# Altium integrated library Keyboard.IntLib: 18 symbols
Pins are listed as number, name and electrical type; pins without a type are passive.

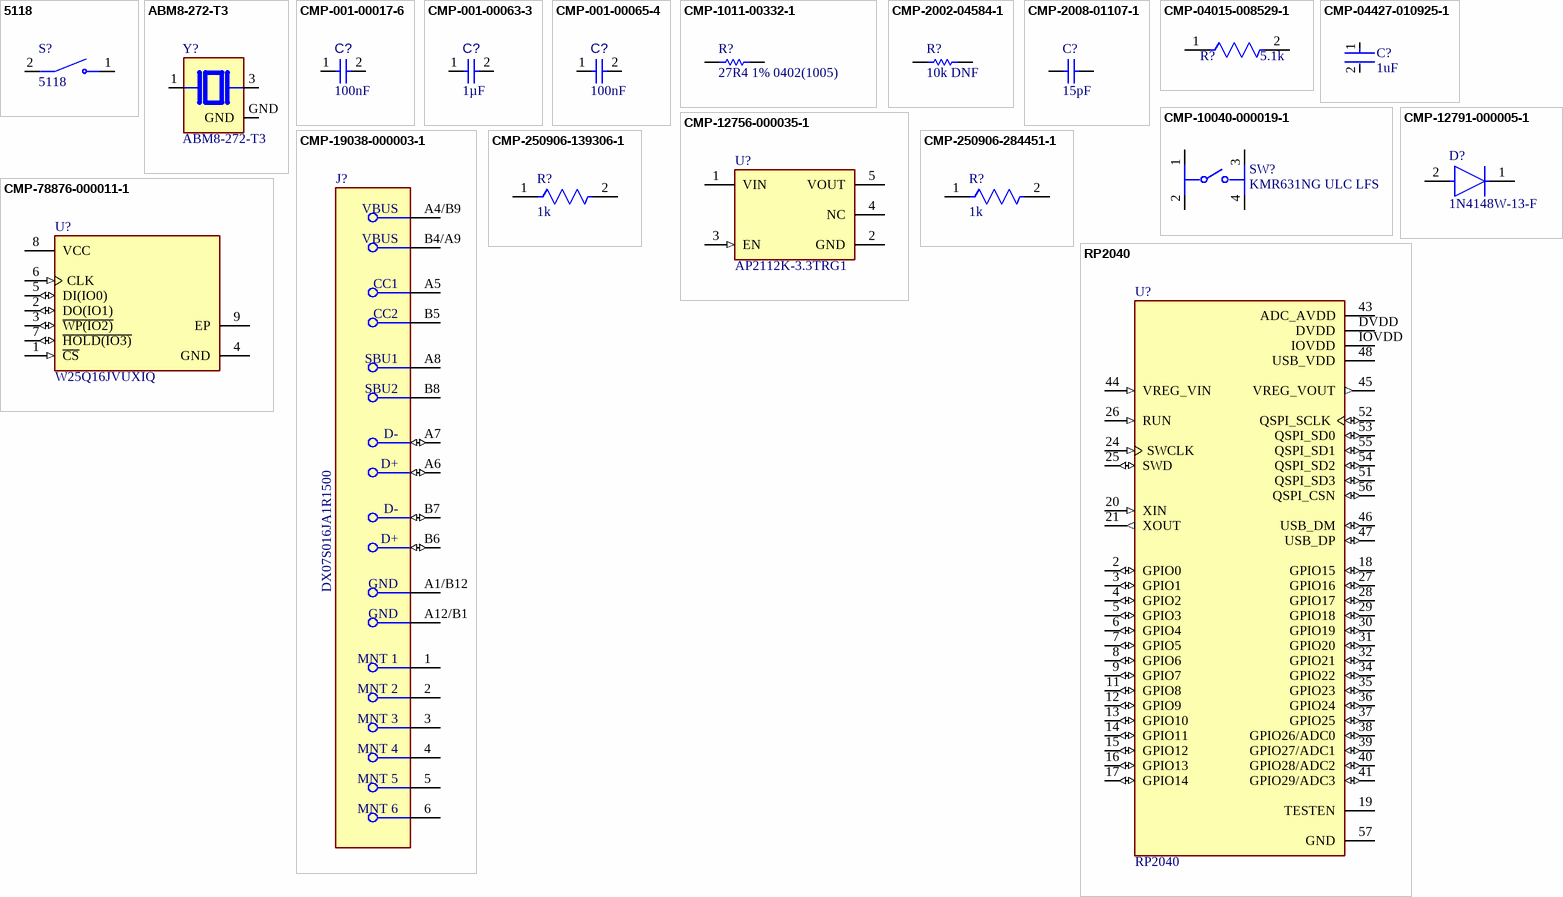
[diagram p0: symbols 5118 to RP2040]

## 5118
designator S?
SWITCH SKT FOR KAILH CHOC 1=10PC; MF: Adafruit Industries LLC; SnapEDA_Link: https://www.snapeda.com/parts/5118/Adafruit+Industries/view-part/?ref=snap; Package: NON STANDARD-2 Adafruit; Value: *; MP: 5118; Check_prices: https://www.snapeda.com/parts/5118/Adafruit+Industries/view-part/?ref=eda
footprint SW_5118
pins: 1 NO, 2 COM

## ABM8-272-T3
designator Y?
12 MHz Â±30ppm Crystal 10pF 50 Ohms 4-SMD, No Lead; MF: ABRACON; SnapEDA_Link: https://www.snapeda.com/parts/ABM8-272-T3/Abracon/view-part/?ref=snap; Package: NON-STANDARD-4 Abracon; Value: *; MP: ABM8-272-T3; Check_prices: https://www.snapeda.com/parts/ABM8-272-T3/Abracon/view-part/?ref=eda
footprint XTAL_ABM8-272-T3
pins: 1, 3, GND (power)

## CMP-001-00017-6
designator C?, comment value 100nF  (hidden comment: Capacitor 100 nF +/-10% 50 V 0603)
Chip Capacitor, 100 nF, +/- 10%, 50 V, 0603 (1608 Metric); Manufacturer: KYOCERA AVX; Manufacturer Part Number: 06035C104KAT2A; Manufacturer: Yageo Group; Manufacturer Part Number: CC0603KRX7R9BB104; Manufacturer: Murata; Manufacturer Part Number: GRM188R71H104KA93D; Voltage Rating: 50V; Capacitor Type: Ceramic; Tolerance: 10%; Mounting Technology: SM; Max Operating Temperature: 125°C; RoHS Compliant: True; Pins: 2; Case/Package: 0603; Min Operating Temperature: -55°C; Component Type: Capacitors
footprint CAPC1608X90X40NL10T20 (Chip Capacitor, 2-Leads, Body 1.70x0.90mm, IPC Medium Density)
footprint CAPC1608X90X40LL10T20 (Chip Capacitor, 2-Leads, Body 1.70x0.90mm, IPC High Density)
footprint CAPC1608X90X40ML10T20 (Chip Capacitor, 2-Leads, Body 1.70x0.90mm, IPC Low Density)
pins: 1, 2

## CMP-001-00063-3
designator C?, comment value 1µF  (hidden comment: Capacitor 1µF +/-20% 10V 0402)
Chip Capacitor, 1µF +/-20%, 10V, 0402, Thickness 0.6 mm; Manufacturer: KYOCERA AVX; Manufacturer Part Number: 0402ZD105KAT2A; Manufacturer: KEMET; Manufacturer Part Number: C0402C105K8PACTU; Manufacturer: Yageo Group; Manufacturer Part Number: CC0402KRX5R6BB105; Manufacturer: TDK; Manufacturer Part Number: C1005X5R1A105K050BB; Manufacturer Part Number: C1005X6S1A105K; Manufacturer Part Number: C0402C105K8PAC; Tolerance: 10%; Mounting Technology: SMT; Max Operating Temperature: 85°C; Voltage Rating: 10V; Pins: 2; Case/Package: 0402; Min Operating Temperature: -55°C; Component Type: Capacitors
footprint CAPC0402(1005)60_L (Chip Capacitor, Body 1.0x0.5mm, Height 0.6mm, IPC High Density)
pins: 1, 2

## CMP-001-00065-4
designator C?, comment value 100nF  (hidden comment: Capacitor 100nF +/-20% 25V 0402)
Chip Capacitor, 100nF +/-20%, 25V, 0402, Thickness 0.6 mm; Manufacturer: TDK; Manufacturer Part Number: CGA2B3X7R1E104K050BB; Manufacturer: KYOCERA AVX; Manufacturer Part Number: 04023D104KAT2A; Manufacturer: Samsung Electro-Mechanics; Manufacturer Part Number: CL05A104KA5NNNC; Manufacturer: Yageo Group; Manufacturer Part Number: CC0402KRX5R8BB104; Tolerance: 10%; Max Operating Temperature: 85°C; Min Operating Temperature: -55°C; Pins: 2; Voltage Rating: 25V; Mounting Technology: SMT; Case/Package: 0402; Component Type: Capacitors
footprint CAPC0402(1005)60_L (Chip Capacitor, Body 1.0x0.5mm, Height 0.6mm, IPC High Density)
pins: 1, 2

## CMP-1011-00332-1
designator R?, comment 27R4 1% 0402(1005)
27R4 0.063W 1% 0402 (1005 Metric)  SMD; Case-Metric: 1005; Value: 27.40 Ohm; Case-EIA: 0402; Power: 0.063 W; Tolerance: 1 %; Technology: SMT
footprint RESC0402(1005)_L (Chip Resistor, Body 1.0x0.5mm, IPC High Density)
footprint RESC0402(1005)_M (Chip Resistor, Body 1.0x0.5mm, IPC Low Density)
footprint RESC0402(1005)_N (Chip Resistor, Body 1.0x0.5mm, IPC Medium Density)
pins: 1, 2
1 alternate drawing of the same symbol

## CMP-2002-04584-1
designator R?, comment 10k DNF
Manufacturer: KOA Speer; Part Number: SG73P1ETTP1002F
footprint RESC1005X40X25LL10T10 (Chip Resistor, 2-Leads, Body 1.00x0.50mm, IPC High Density)
footprint RESC1005X40X25NL10T10 (Chip Resistor, 2-Leads, Body 1.00x0.50mm, IPC Medium Density)
footprint RESC1005X40X25ML10T10 (Chip Resistor, 2-Leads, Body 1.00x0.50mm, IPC Low Density)
pins: 1, 2
1 alternate drawing of the same symbol

## CMP-2008-01107-1
designator C?, comment 15pF
Manufacturer: Vitramon; Part Number: VJ0402A150JXAAP
footprint CAPC1005X60X26ML10T16 (Chip Capacitor, 2-Leads, Body 1.00x0.50mm, IPC Low Density)
footprint CAPC1005X60X26LL10T16 (Chip Capacitor, 2-Leads, Body 1.00x0.50mm, IPC High Density)
footprint CAPC1005X60X26NL10T16 (Chip Capacitor, 2-Leads, Body 1.00x0.50mm, IPC Medium Density)
pins: 1, 2
1 alternate drawing of the same symbol

## CMP-04015-008529-1
designator R?, comment 5.1k
5.1kΩ ±1% 0.063W, 1/16W Chip Resistor 0402 (1005 Metric) Moisture Resistant Thin Film
footprint FP-RN73R1E-IPC_C
footprint FP-RN73R1E-MFG
footprint FP-RN73R1E-IPC_B
footprint FP-RN73R1E-IPC_A
pins: 1, 2

## CMP-04427-010925-1
designator C?, comment 1uF
Automotive Ceramic Capacitor, 1206, 1uF, 5%, X7R, 15%, 50V; Mount: Surface Mount; Min Operating Temperature: -55°C; Voltage Rating (DC): 50V; Ratings: AEC-Q200; Tolerance: 5%; RoHS Compliant: Yes; Max Operating Temperature: 125°C; Width: 0.063inch; Voltage Rating: 50V; Thickness: 0.037inch; Package Quantity: 2000; Capacitance: 1uF; Packaging: Tape and Reel; Length: 0.126inch; Case/Package: 1206; Dielectric: X7R
footprint FP-1206-L_3_2_0_2-W_1_6_0-IPC_B
footprint FP-1206-L_3_2_0_2-W_1_6_0-IPC_A
footprint FP-1206-L_3_2_0_2-W_1_6_0-MFG
footprint FP-1206-L_3_2_0_2-W_1_6_0-IPC_C
pins: 1, 2

## CMP-10040-000019-1
designator SW?, comment KMR631NG ULC LFS
SWITCH TACTILE SPST-NO 50MA 32V; Mechanical Life: 150000Cycles; Actuator Type: Standard; Operating Force: 300gf; Switch Function: Off-Mom; Illumination Type: Non-Illuminated; Throw Configuration: SPST; Ratings: IP67; Packaging: Tape and Reel; Mount: Surface Mount; Min Operating Temperature: -40°C; Termination: Gull Wing; Max Operating Temperature: 85°C
footprint FP-KMR631NG_ULC_LFS-MFG
pins: 1, 2, 3, 4

## CMP-12756-000035-1
designator U?, comment AP2112K-3.3TRG1
IC REG LINEAR 3.3V 600MA SOT25; Number of Regulators: 1; Output Type: Fixed; Polarity: Positive; Min Input Voltage: 2.5V; Max Input Voltage: 6V; Accuracy: 1.5%; Quiescent Current: 55uA; Dropout Voltage: 250mV; Min Operating Temperature: -40°C; Length: 3.1mm; Output Current: 600mA; Max Operating Temperature: 85°C; Package Quantity: 1; Output Voltage: 3.3V; Width: 1.7mm; Number of Outputs: 1; Packaging: Tape and Reel; Height: 1.3mm; Lead Free: Lead Free; Max Output Current: 600mA; Case/Package: SOT-23-5; Mount: Surface Mount; Number of Pins: 5
footprint FP-SOT25-IPC_A
footprint FP-SOT25-MFG
footprint FP-SOT25-IPC_C
footprint FP-SOT25-IPC_B
pins: 1 VIN (power), 2 GND (power), 3 EN (in), 4 NC, 5 VOUT (power)

## CMP-12791-000005-1
designator D?, comment 1N4148W-13-F
DIODE GEN PURP 100V 150MA SOD123; Manufacturer: Diodes Inc.; Capacitance: 2pF; Forward Current: 300mA; Max Junction Temp: +150°C; Value: 2pF; Standoff Height: 0mm; Peak Reverse Current: 1uA; Max Surge Forward Current: 1A; Category: Diode; Height: 1.45mm; ComponentLink2URL: https://upverter.com/datasheet/628e7d6fee5901eee6eef4567d1c3569f2cd3cde.pdf; Lead Free: Yes; ComponentLink2Description: Datasheet; Octopart: https://octopart.com/1n4148w-13-f-diodes+inc.-2359612; Temperature Range High: +150°C; Device Class L2: Diodes; Digikey Description: DIODE GEN PURP 100V 150MA SOD123; Reverse Voltage: 100V; Temperature Range Low: -65°C; Device Class L1: Discrete Semiconductors; Package: SOD123; RoHS: TRUE; Manufacturer Part Number: 1N4148W-13-F; Footprint Url: https://www.diodes.com/assets/Package-Files/SOD123.pdf; Automotive: No; Max Repetitive Reverse Voltage: 100V; Mouser Description: 1N4148W Series 2 A 100 V 400 mW Surface Mount Fast Switching Diode - SOD-123; Temperature: -65°C to +150°C; Device Class L3: Rectifier Diodes
footprint FP-SOD123-MFG
footprint FP-SOD123-IPC_C
footprint FP-SOD123-IPC_B
footprint FP-SOD123-IPC_A
pins: 1 C, 2 A

## CMP-19038-000003-1
designator J?, comment DX07S016JA1R1500
CONN RCP USB2.0 TYP C 24P SMD RA
footprint FP-DX07S016JA1R1500-MFG
pins: 1 MNT 1, 2 MNT 2, 3 MNT 3, 4 MNT 4, 5 MNT 5, 6 MNT 6, A1/B12 GND (power), A4/B9 VBUS (power), A5 CC1, A6 D+ (io), A7 D- (io), A8 SBU1, A12/B1 GND (power), B4/A9 VBUS (power), B5 CC2, B6 D+ (io), B7 D- (io), B8 SBU2

## CMP-78876-000011-1
designator U?, comment W25Q16JVUXIQ
IC FLASH 16MBIT SPI/QUAD 8USON; RoHS Compliant: Yes
footprint FP-UX-MFG
footprint FP-UX-IPC_A
footprint FP-UX-IPC_C
footprint FP-UX-IPC_B
pins: 1 ~{CS} (in), 2 DO(IO1) (io), 3 ~{WP(IO2)} (io), 4 GND (power), 5 DI(IO0) (io), 6 CLK (in), 7 ~{HOLD(IO3)} (io), 8 VCC (power), 9 EP

## CMP-250906-139306-1
designator R?, comment 1k
RES Thin Film,  1kΩ, 0.1%, 0.063W, 25ppm/°C, 0402
footprint FP-TFCR0402-IPC_A
footprint FP-TFCR0402-IPC_B
footprint FP-TFCR0402-IPC_C
footprint FP-TFCR0402-MFG
pins: 1, 2

## CMP-250906-284451-1
designator R?, comment 1k
RES Thin Film,  1kΩ, 0.1%, 0.063W, 25ppm/°C, 0402; RoHS Compliant: Yes
footprint FP-TFCR0402-MFG
footprint FP-TFCR0402-IPC_A
footprint FP-TFCR0402-IPC_C
footprint FP-TFCR0402-IPC_B
pins: 1, 2

## RP2040
designator U?
RP2040 chip for Raspberry Pi Pico - ARM® Cortex®-M0+ MCU 32-Bit; SnapEDA_Link: https://www.snapeda.com/parts/RP2040/Raspberry+Pi/view-part/?ref=snap; Package: None; Value: *; MF: Raspberry Pi; MP: RP2040; Check_prices: https://www.snapeda.com/parts/RP2040/Raspberry+Pi/view-part/?ref=eda
footprint QFN40P700X700X90-57N
pins: 2 GPIO0 (io), 3 GPIO1 (io), 4 GPIO2 (io), 5 GPIO3 (io), 6 GPIO4 (io), 7 GPIO5 (io), 8 GPIO6 (io), 9 GPIO7 (io), 11 GPIO8 (io), 12 GPIO9 (io), 13 GPIO10 (io), 14 GPIO11 (io), 15 GPIO12 (io), 16 GPIO13 (io), 17 GPIO14 (io), 18 GPIO15 (io), 19 TESTEN, 20 XIN (in), 21 XOUT (out), 24 SWCLK (in), 25 SWD (io), 26 RUN (in), 27 GPIO16 (io), 28 GPIO17 (io), 29 GPIO18 (io), 30 GPIO19 (io), 31 GPIO20 (io), 32 GPIO21 (io), 34 GPIO22 (io), 35 GPIO23 (io), 36 GPIO24 (io), 37 GPIO25 (io), 38 GPIO26/ADC0 (io), 39 GPIO27/ADC1 (io), 40 GPIO28/ADC2 (io), 41 GPIO29/ADC3 (io), 43 ADC_AVDD (power), 44 VREG_VIN (in), 45 VREG_VOUT (out), 46 USB_DM (io), 47 USB_DP (io), 48 USB_VDD (power), 51 QSPI_SD3 (io), 52 QSPI_SCLK (io), 53 QSPI_SD0 (io), 54 QSPI_SD2 (io), 55 QSPI_SD1 (io), 56 QSPI_CSN (io), 57 GND (power), DVDD (power), IOVDD (power)